# Altium integrated library Detect.IntLib: 20 symbols
Pins are listed as number, name and electrical type; pins without a type are passive.

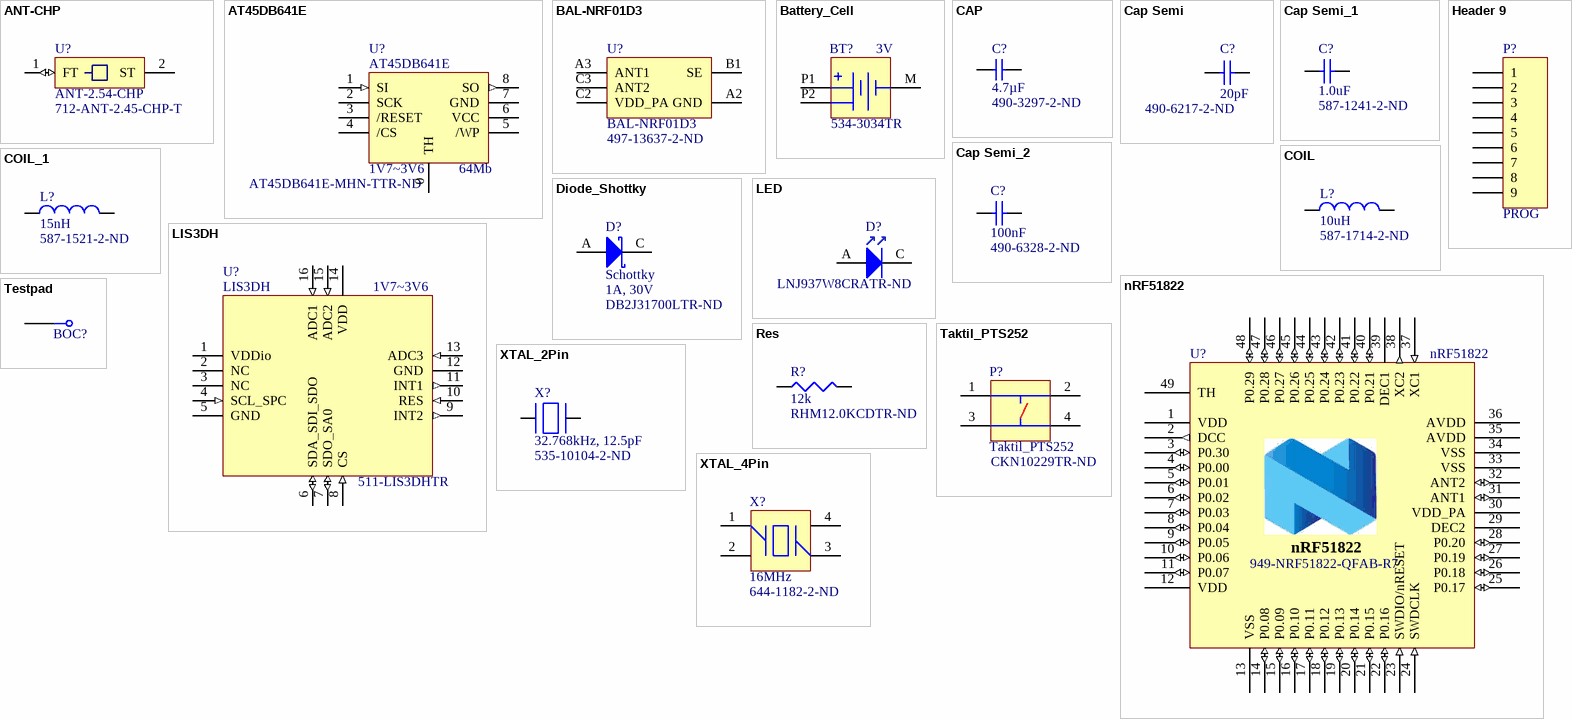
[diagram p0: symbols ANT-CHP to XTAL_4Pin]

## ANT-CHP
designator U?, comment ANT-2.54-CHP  Supplier Part Number 1: 712-ANT-2.45-CHP-T
ANT-2.54-CHP, 2.45GHz Ultra-Compact Chip Antenna; Supplier 1: Mouser
footprint ANT-CHP (ANT-2.45-CHP)
footprint ANT-CHP_rainsun (ANT-2.45-CHP)
pins: 1 FT (io), 2 ST

## AT45DB641E
designator U?  value 64Mb  supply voltage: 1V7~3V6  Supplier Part Number 1: AT45DB641E-MHN-TTR-ND
serial interface Flash memory (1.7V-3.6V); Supplier 1: Digi-Key
footprint SOIC-8 EIAJ (Small Plastic Outline 8 Leads; Body Width 5.41 mm; Pitch 1.27 mm)
footprint UDFN-8MA1 (MO-229 (JEDEC), body 6x5mm)
pins: 0 TH, 1 SI (in), 2 SCK, 3 /RESET, 4 /CS, 5 /WP, 6 VCC (power), 7 GND (power), 8 SO (out)

## BAL-NRF01D3
designator U?  Supplier Part Number 1: 497-13637-2-ND
ST BAL-NRF01D31; note: BAL-NRF01D3; Supplier 1: Digi-Key
footprint BAL-NRF01D3
pins: A2 GND, A3 ANT1, B1 SE, C2 VDD_PA, C3 ANT2

## Battery_Cell
designator BT?, comment value 3V  Supplier Part Number 1: 534-3034TR  (hidden comment: Battery Cell Holder)
Battery Cell; note: Keystone 3034; Supplier 1: Mouser
footprint BAT_HOLDER (Battery Holder for 20mm Coin Cell Betteries)
footprint BAT_HOLDER_001 (Battery Holder for 20mm Coin Cell Betteries)
footprint BAT-Holder_3034 (Coin Cell 20mm Holder from Keystone)
pins: M (power), P1 (power), P2 (power)

## CAP
designator C?, comment 4.7µF  Supplier Part Number 1: 490-3297-2-ND
Capacitor, X5R, ±10%; Part Number: C0603-4µ7; Note: 6.3V; Artikkelnr Noca: 20069060; Manufacturer: *; Manufacturer Part Number: *; Datasheet: *; Footprint: 0603; LatestRevisionDate: 2009-11-23; Pin Count: 2; Publisher: Nordic Semiconductor; Published: 2009-05-08; Value: 4.7µF; Supplier: *; Supplier part number: *; 2nd source Supplier: *; 2nd source part number: *; Supplier 1: Digi-Key
footprint CAPC1608X06L
footprint 0603[1608]_a (Chip Capacitor; Body 1.6 x 0.8 mm (LxW typ))
pins: 1, 2

## Cap Semi
designator C?, comment value 20pF  Supplier Part Number 1: 490-6217-2-ND  (hidden comment: Cap 20pF)
Capacitor (Semiconductor SIM Model); Supplier 1: Digi-Key
footprint C1206 (Chip Capacitor; Body 3.2 x 1.6 mm (LxW typ))
footprint 0402 (Chip Capacitor; Body 1.0 x 0.5 mm (LxW typ))
footprint 1310[0504] (Chip Capacitor; Body 1.2 x 1.0 mm (LxW typ))
footprint 1608[0603] (Chip Capacitor; Body 1.6 x 0.8 mm (LxW typ))
footprint C1210 (Chip Capacitor; Body 3.2 x 2.5 mm (LxW typ))
simulation model CAP (Semiconductor Capacitor)
signal-integrity model Cap Semi
footprint 1005[0402]
footprint 0402[1005]
pins: 1, 2

## Cap Semi_1
designator C?, comment Supplier Part Number 1: 587-1241-2-ND  (hidden comment: 1.0uF)
Capacitor (Semiconductor SIM Model); tolerance: 10%, X7R; note: 16V; value: 1.0uF; Supplier 1: Digi-Key
footprint CC3216-1206 (Chip Capacitor; Body 3.2 x 1.6 mm (LxW typ))
footprint CC1005-0402 (Chip Capacitor; Body 1.0 x 0.5 mm (LxW typ))
footprint CC1310-0504 (Chip Capacitor; Body 1.2 x 1.0 mm (LxW typ))
footprint CC1608-0603 (Chip Capacitor; Body 1.6 x 0.8 mm (LxW typ))
footprint CC3225-1210 (Chip Capacitor; Body 3.2 x 2.5 mm (LxW typ))
simulation model CAP (Semiconductor Capacitor)
signal-integrity model Cap Semi
footprint CC2012-0805 (Chip Capacitor; Body 2.0 x 1.2 mm (LxW typ))
footprint 1608[0603]
footprint 0402
footprint 1005[0402]
footprint 0402[1005] (0402 (1005), body 1.0 x 0.5 mm)
footprint 0603[1608]
footprint 0603[1608]_a (Chip Capacitor; Body 1.6 x 0.8 mm (LxW typ))
pins: 1, 2

## Cap Semi_2
designator C?, comment Supplier Part Number 1: 490-6328-2-ND  (hidden comment: 100nF)
Capacitor (Semiconductor SIM Model); tolerance: 10%, X7R; note: 16V; value: 100nF; Supplier 1: Digi-Key
footprint CC3216-1206 (Chip Capacitor; Body 3.2 x 1.6 mm (LxW typ))
footprint CC1005-0402 (Chip Capacitor; Body 1.0 x 0.5 mm (LxW typ))
footprint CC1310-0504 (Chip Capacitor; Body 1.2 x 1.0 mm (LxW typ))
footprint CC1608-0603 (Chip Capacitor; Body 1.6 x 0.8 mm (LxW typ))
footprint CC3225-1210 (Chip Capacitor; Body 3.2 x 2.5 mm (LxW typ))
simulation model CAP (Semiconductor Capacitor)
signal-integrity model Cap Semi
footprint CC2012-0805 (Chip Capacitor; Body 2.0 x 1.2 mm (LxW typ))
footprint 1608[0603]
footprint 0402
footprint 1005[0402]
footprint 0402[1005] (0402 (1005), body 1.0 x 0.5 mm)
footprint 0603[1608]
pins: 1, 2

## COIL
designator L?, comment Supplier Part Number 1: 587-1714-2-ND  (hidden comment: 10uH)
Inductor / Spule; tolerance: 10%; note: I_DC-min=80mA; Value: 10uH; Supplier 1: Digi-Key
simulation model INDUCTOR (Inductor)
signal-integrity model Inductor
footprint Choke Coil SMD (ELL6RH Thin Type SMD 6.0x6.4x2.5mm)
footprint LQH43C (Choke Coil, Body 4.5 x 3.2mm)
footprint MC152 (MC152 Molded Coil SMD, body 5.1mm, TOKO)
footprint Coil Epcos SQ10.4 (SMT-Power Inductor, 10.4x10.4x4.8mm)
footprint Coil Epcos SQ7.3 (SMT-Power Inductor, 7.3x7.3x3.3mm)
footprint Coil Epcos SQ6.3 (SMT-Power Inductor, 6.3x6.3x3.0mm)
footprint Coil TDK NLC4532 (SMT-Power Inductor, 4.5x3.2x3.2mm)
footprint Coil Epcos SIMID 1812-T (SMT-Power Inductor, 4.5x3.2x3.2mm)
footprint 0603[1608]_a (Chip Capacitor; Body 1.6 x 0.8 mm (LxW typ))
pins: 1, 2

## COIL_1
designator L?, comment Supplier Part Number 1: 587-1521-2-ND  (hidden comment: 15nH)
Inductor / Spule; tolerance: 5%; note: I_DC-min=320mA; Value: 15nH; Supplier 1: Digi-Key
simulation model INDUCTOR (Inductor)
signal-integrity model Inductor
footprint Choke Coil SMD (ELL6RH Thin Type SMD 6.0x6.4x2.5mm)
footprint LQH43C (Choke Coil, Body 4.5 x 3.2mm)
footprint MC152 (MC152 Molded Coil SMD, body 5.1mm, TOKO)
footprint Coil Epcos SQ10.4 (SMT-Power Inductor, 10.4x10.4x4.8mm)
footprint Coil Epcos SQ7.3 (SMT-Power Inductor, 7.3x7.3x3.3mm)
footprint Coil Epcos SQ6.3 (SMT-Power Inductor, 6.3x6.3x3.0mm)
footprint Coil TDK NLC4532 (SMT-Power Inductor, 4.5x3.2x3.2mm)
footprint Coil Epcos SIMID 1812-T (SMT-Power Inductor, 4.5x3.2x3.2mm)
footprint 0603[1608]_a (Chip Capacitor; Body 1.6 x 0.8 mm (LxW typ))
footprint 0402[1005] (0402 (1005), body 1.0 x 0.5 mm)
pins: 1, 2

## Diode_Shottky
designator D?, comment Schottky  value 1A, 30V  Supplier Part Number 1: DB2J31700LTR-ND
Schottky barrier diode; Supplier 1: Digi-Key
signal-integrity model D Schottky
footprint DO-214AC (SMA) (Diode Package, Body 4.5 x 2.97mm)
footprint TUMD2 (TUMD2 small mold type)
footprint SOD123 (SOD-123; 2 Leads; Body 2.7 x 1.6 mm, (LxW))
footprint SC-90A (Schottky Barrier Diode)
pins: A Anode, C Cathode

## Header 9
designator P?, comment PROG
Header, 9-Pin
footprint HDR1X9 (Connector; Header; 9 Position)
signal-integrity model Connector
footprint HDR1X9_round_custom-SMD (SMD Pads; 1x9 Position, custom round)
pins: 1, 2, 3, 4, 5, 6, 7, 8, 9

## LED
designator D?, comment Supplier Part Number 1: LNJ937W8CRATR-ND  (hidden comment: LED blue)
LED; value: 20mA; note: BLUE; Supplier 1: Digi-Key
signal-integrity model 1N4007
footprint LED_0805 (LED0805)
footprint Model Name (Model Description)
footprint LED_TH (LED 5mm TH)
footprint LED_0603 (0603-Pol. SMD Chip LED, Body 1.6 x 0.8 mm (LxW typ))
footprint 0402[1005] (0402 (1005), body 1.0 x 0.5 mm)
pins: A Anode, C Cathode

## LIS3DH
designator U?  supply voltage: 1V7~3V6  Supplier Part Number 1: 511-LIS3DHTR
LIS3DH, MEMS digital output motion sensor; Supplier 1: Mouser
footprint LGA-16_manuell (16-lead LGA)
footprint LGA-16 (16-lead LGA)
pins: 1 VDDio (power), 2 NC, 3 NC, 4 SCL_SPC (in), 5 GND (power), 6 SDA_SDI_SDO (io), 7 SDO_SA0 (io), 8 CS (in), 9 INT2 (out), 10 RES (in), 11 INT1 (out), 12 GND (power), 13 ADC3 (in), 14 VDD (power), 15 ADC2 (in), 16 ADC1 (in)

## nRF51822
designator U?  Supplier Part Number 1: 949-NRF51822-QFAB-R7
Supplier 1: Mouser
footprint QFN-48 (QFN40P600X600X90-48N)
pins: 1 VDD (power), 2 DCC (out), 3 P0.30 (io), 4 P0.00 (io), 5 P0.01 (io), 6 P0.02 (io), 7 P0.03 (io), 8 P0.04 (io), 9 P0.05 (io), 10 P0.06 (io), 11 P0.07 (io), 12 VDD (power), 13 VSS (power), 14 P0.08 (io), 15 P0.09 (io), 16 P0.10 (io), 17 P0.11 (io), 18 P0.12 (io), 19 P0.13 (io), 20 P0.14 (io), 21 P0.15 (io), 22 P0.16 (io), 23 SWDIO/nRESET (in), 24 SWDCLK (in), 25 P0.17 (io), 26 P0.18 (io), 27 P0.19 (io), 28 P0.20 (io), 29 DEC2 (power), 30 VDD_PA (power), 31 ANT1 (io), 32 ANT2 (io), 33 VSS (power), 34 VSS (power), 35 AVDD (power), 36 AVDD (power), 37 XC1 (in), 38 XC2 (out), 39 DEC1 (power), 40 P0.21 (io), 41 P0.22 (io), 42 P0.23 (io), 43 P0.24 (io), 44 P0.25 (io), 45 P0.26 (io), 46 P0.27 (io), 47 P0.28 (io), 48 P0.29 (io), 49 TH

## Res
designator R?, comment Supplier Part Number 1: RHM12.0KCDTR-ND  (hidden comment: 12k)
Resistor; tolerance: 1%; note: 0.063W; Value: 12k; Supplier 1: Digi-Key
simulation model RESISTOR (Resistor)
signal-integrity model Res
footprint Res-TH-L11.5 (Metal Oxide Resistor, TH Axial, L=11.5, D=4.5, d=0.8)
footprint Res-TH-L15.5 (Metal Oxide Resistor, TH Axial, L=15.5, D=5, d=0.8)
footprint Res-TH-L50 (Hochlast-Keramik-Widerstand, TH Axial, L=50, D=9, d=0.8)
footprint Res-TH-L38 (Hochlast-Keramik-Widerstand, TH Axial, L=38, D=9, d=0.8)
footprint Shunt4527 (Power Metal Strip Resistor, SMD, Body 11.56mm x 6.98mm)
footprint 0402[1005] (0402 (1005), body 1.0 x 0.5 mm)
pins: 1, 2

## Taktil_PTS252
designator P?  Supplier Part Number 1: CKN10229TR-ND
Taster; Supplier 1: Digi-Key
footprint taktil_PTS525 (Microminiature Tact Switch for SMT)
pins: 1, 2, 3, 4

## Testpad
designator BOC?  (value not drawn)
footprint BOC (Board-Offset-Correcture 1mm)
footprint TESTPAD_1MM (Testpad 1mm)
pins: 1

## XTAL_2Pin
designator X?, comment value 32.768kHz, 12.5pF  Supplier Part Number 1: 535-10104-2-ND  (hidden comment: XTAL-2pin)
Crystal; Supplier 1: Digi-Key
footprint CSM-7 (SMD Quartz Crystal)
footprint 49USMXL (49USMXL Euroquartz SMD Crystal)
footprint X4115 (SMD crystal, EuroQuartz X4115 series)
footprint ABS06 (Low Profile Crystal 2.0 x 1.2 mm)
pins: 1, 2

## XTAL_4Pin
designator X?  value 16MHz  Supplier Part Number 1: 644-1182-2-ND  (hidden comment: XTAL_4Pin)
ABM8 ceramic crystal; Supplier 1: Digi-Key
footprint SMD3225 (thin crystal)
pins: 1, 2, 3, 4